# Altium footprint library Microchip Linear.PcbLib: 90 footprints (part 4 of 6)
Each footprint in its own frame and in the unit in brackets; x right, y up, seen from the top. Pads: shape width x height; smd on the part's side, far side on the other; paste and mask are expansions set on the pad; w line width, h text height; cw(c..) or ccw(c..) is an arc to the next point about the centre after c.
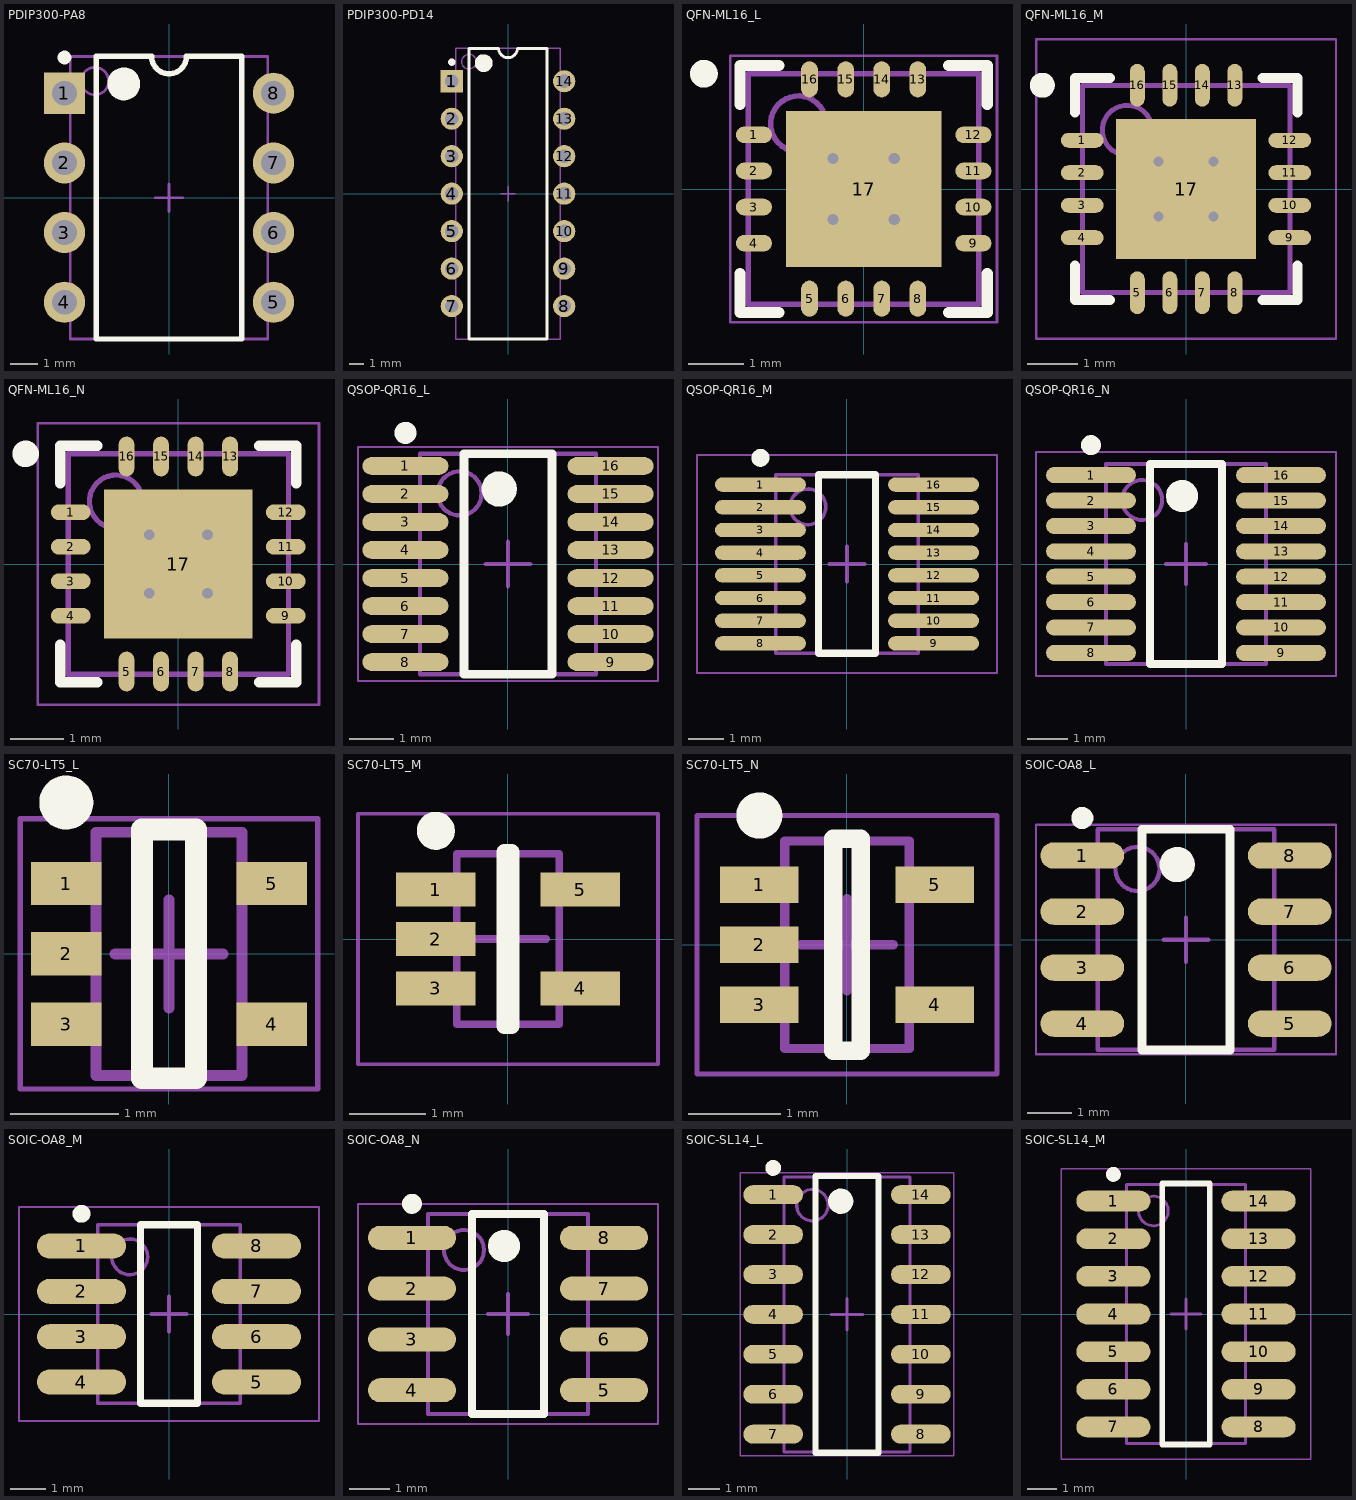
[diagram p3: the footprints below, top view; thin cyan lines are the x and y axes]

## PDIP300-PA8 [mm] "DIP, 8-Leads, Row Spacing 7.62mm, Pitch 2.54mm, Body 9.5x6.6mm"
height 5.33
pads (8):
  rect 1.5x1.5 hole 0.9: 1(-3.81,3.81)
  round 1.5 hole 0.9: 2(-3.81,1.27) 3(-3.81,-1.27) 4(-3.81,-3.81) 5(3.81,-3.81) 6(3.81,-1.27) 7(3.81,1.27) 8(3.81,3.81)
Top Overlay:
  circle w0.6: c-1.65,4.15 r0.3
  circle w0.25: c-3.81,5.11 r0.125
  lines w0.2: -2.65,-5.15 2.65,-5.15 2.65,5.15 0.635,5.15 cw(c0,5.15) -0.635,5.15 -2.65,5.15 -2.65,-5.15
Mechanical 13:
  circle w0.1: c-2.7,4.25 r0.5
  lines w0.1: -3.6,-5.15 3.6,-5.15 3.6,5.15 -3.6,5.15 -3.6,-5.15
Mechanical 15:
  lines w0.1: -0.5,0 0.5,0 ; 0,-0.5 0,0.5
3D body "DIP8.step": height 4.8, standoff -3.3, extent -3.935,-4.9 3.935,4.9

## PDIP300-PD14 [mm] "DIP, 14-Leads, Row Spacing 7.62mm, Pitch 2.54mm, Body 19.2x6.6mm"
height 5.33
pads (14):
  rect 1.5x1.5 hole 0.9: 1(-3.81,7.62)
  round 1.5 hole 0.9: 2(-3.81,5.08) 3(-3.81,2.54) 4(-3.81,0) 5(-3.81,-2.54) 6(-3.81,-5.08) 7(-3.81,-7.62) 8(3.81,-7.62) 9(3.81,-5.08) 10(3.81,-2.54) 11(3.81,0) 12(3.81,2.54) 13(3.81,5.08) 14(3.81,7.62)
Top Overlay:
  circle w0.6: c-1.65,8.85 r0.3
  circle w0.25: c-3.81,8.92 r0.125
  lines w0.2: -2.65,-9.85 2.65,-9.85 2.65,9.85 0.635,9.85 cw(c0,9.85) -0.635,9.85 -2.65,9.85 -2.65,-9.85
Mechanical 13:
  circle w0.1: c-2.65,8.95 r0.5
  lines w0.1: -3.55,-9.85 3.55,-9.85 3.55,9.85 -3.55,9.85 -3.55,-9.85
Mechanical 15:
  lines w0.1: -0.5,0 0.5,0 ; 0,-0.5 0,0.5
3D body "DIP14.step": height 4.01, standoff -2.97, extent -4,-9.525 4,9.525

## QFN-ML16_L [mm] "QFN, 16-Leads, Body 4x4mm, Pitch 0.65mm, Thermal Pad 2.8x2.8mm, IPC High Density"
height 1
pads (17):
  oval 0.65x0.3 smd: 1(-1.975,0.975) 2(-1.975,0.325) 3(-1.975,-0.325) 4(-1.975,-0.975) 9(1.975,-0.975) 10(1.975,-0.325) 11(1.975,0.325) 12(1.975,0.975)
  oval 0.3x0.65 smd: 5(-0.975,-1.975) 6(-0.325,-1.975) 7(0.325,-1.975) 8(0.975,-1.975) 13(0.975,1.975) 14(0.325,1.975) 15(-0.325,1.975) 16(-0.975,1.975)
  rect 2.8x2.8 smd: 17(0,0)
via -0.55,0.55 diameter 0.5 hole 0.2
via 0.55,0.55 diameter 0.5 hole 0.2
via -0.55,-0.55 diameter 0.5 hole 0.2
via 0.55,-0.55 diameter 0.5 hole 0.2
Top Overlay:
  circle w0.25: c-2.875,2.075 r0.125
  lines w0.2: -2.225,-1.525 -2.225,-2.225 -1.525,-2.225 ; -2.225,1.525 -2.225,2.225 -1.525,2.225 ; 1.525,-2.225 2.225,-2.225 2.225,-1.525 ; 1.525,2.225 2.225,2.225 2.225,1.525
Mechanical 13:
  circle w0.1: c-1.175,1.175 r0.5
  lines w0.1: -2.075,-2.075 -2.075,2.075 2.075,2.075 2.075,-2.075 -2.075,-2.075
Mechanical 15:
  lines w0.05: -2.4,-2.4 -2.4,2.4 2.4,2.4 2.4,-2.4 -2.4,-2.4
  lines w0.1: -0.5,0 0.5,0 ; 0,-0.5 0,0.5
3D body "QFN16-4x4.step": height 0.92, standoff 0, extent -2,-2 2,2

## QFN-ML16_M [mm] "QFN, 16-Leads, Body 4x4mm, Pitch 0.65mm, Thermal Pad 2.8x2.8mm, IPC Low Density"
height 1
pads (17):
  oval 0.85x0.3 smd: 1(-2.075,0.975) 2(-2.075,0.325) 3(-2.075,-0.325) 4(-2.075,-0.975) 9(2.075,-0.975) 10(2.075,-0.325) 11(2.075,0.325) 12(2.075,0.975)
  oval 0.3x0.85 smd: 5(-0.975,-2.075) 6(-0.325,-2.075) 7(0.325,-2.075) 8(0.975,-2.075) 13(0.975,2.075) 14(0.325,2.075) 15(-0.325,2.075) 16(-0.975,2.075)
  rect 2.8x2.8 smd: 17(0,0)
via -0.55,0.55 diameter 0.5 hole 0.2
via 0.55,0.55 diameter 0.5 hole 0.2
via -0.55,-0.55 diameter 0.5 hole 0.2
via 0.55,-0.55 diameter 0.5 hole 0.2
Top Overlay:
  circle w0.25: c-2.875,2.075 r0.125
  lines w0.2: -2.225,-1.525 -2.225,-2.225 -1.525,-2.225 ; -2.225,1.525 -2.225,2.225 -1.525,2.225 ; 1.525,-2.225 2.225,-2.225 2.225,-1.525 ; 1.525,2.225 2.225,2.225 2.225,1.525
Mechanical 13:
  circle w0.1: c-1.175,1.175 r0.5
  lines w0.1: -2.075,-2.075 -2.075,2.075 2.075,2.075 2.075,-2.075 -2.075,-2.075
Mechanical 15:
  lines w0.05: -3,-3 -3,3 3,3 3,-3 -3,-3
  lines w0.1: -0.5,0 0.5,0 ; 0,-0.5 0,0.5
3D body "QFN16-4x4.step": height 0.92, standoff 0, extent -2,-2 2,2

## QFN-ML16_N [mm] "QFN, 16-Leads, Body 4x4mm, Pitch 0.65mm, Thermal Pad 2.8x2.8mm, IPC Medium Density"
height 1
pads (17):
  oval 0.75x0.3 smd: 1(-2.025,0.975) 2(-2.025,0.325) 3(-2.025,-0.325) 4(-2.025,-0.975) 9(2.025,-0.975) 10(2.025,-0.325) 11(2.025,0.325) 12(2.025,0.975)
  oval 0.3x0.75 smd: 5(-0.975,-2.025) 6(-0.325,-2.025) 7(0.325,-2.025) 8(0.975,-2.025) 13(0.975,2.025) 14(0.325,2.025) 15(-0.325,2.025) 16(-0.975,2.025)
  rect 2.8x2.8 smd: 17(0,0)
via -0.55,0.55 diameter 0.5 hole 0.2
via 0.55,0.55 diameter 0.5 hole 0.2
via -0.55,-0.55 diameter 0.5 hole 0.2
via 0.55,-0.55 diameter 0.5 hole 0.2
Top Overlay:
  circle w0.25: c-2.875,2.075 r0.125
  lines w0.2: -2.225,-1.525 -2.225,-2.225 -1.525,-2.225 ; -2.225,1.525 -2.225,2.225 -1.525,2.225 ; 1.525,-2.225 2.225,-2.225 2.225,-1.525 ; 1.525,2.225 2.225,2.225 2.225,1.525
Mechanical 13:
  circle w0.1: c-1.175,1.175 r0.5
  lines w0.1: -2.075,-2.075 -2.075,2.075 2.075,2.075 2.075,-2.075 -2.075,-2.075
Mechanical 15:
  lines w0.05: -2.65,-2.65 -2.65,2.65 2.65,2.65 2.65,-2.65 -2.65,-2.65
  lines w0.1: -0.5,0 0.5,0 ; 0,-0.5 0,0.5
3D body "QFN16-4x4.step": height 0.92, standoff 0, extent -2,-2 2,2

## QSOP-QR16_L [mm] "SOP, 16-Leads, Body 4.9x3.9mm, Pitch 0.635mm, IPC High Density"
height 1.76
pads (16):
  oval 1.95x0.4 smd: 1(-2.325,2.222) 2(-2.325,1.587) 3(-2.325,0.953) 4(-2.325,0.318) 5(-2.325,-0.318) 6(-2.325,-0.953) 7(-2.325,-1.587) 8(-2.325,-2.222) 9(2.325,-2.222) 10(2.325,-1.587) 11(2.325,-0.953) 12(2.325,-0.318) 13(2.325,0.318) 14(2.325,0.953) 15(2.325,1.587) 16(2.325,2.222)
Top Overlay:
  circle w0.4: c-0.2,1.7 r0.2
  circle w0.25: c-2.325,2.973 r0.125
  lines w0.2: -1,-2.5 1,-2.5 1,2.5 -1,2.5 -1,-2.5
Mechanical 13:
  circle w0.1: c-1.095,1.6 r0.5
  lines w0.1: -1.995,-2.5 1.995,-2.5 1.995,2.5 -1.995,2.5 -1.995,-2.5
Mechanical 15:
  lines w0.05: -3.4,-2.65 3.4,-2.65 3.4,2.65 -3.4,2.65 -3.4,-2.65
  lines w0.1: -0.5,0 0.5,0 ; 0,-0.5 0,0.5
3D body "TSSOP16-1.step": height 1.1, standoff 0, extent -3.2,-2.5 3.2,2.5

## QSOP-QR16_M [mm] "SOP, 16-Leads, Body 4.9x3.9mm, Pitch 0.635mm, IPC Low Density"
height 1.76
pads (16):
  oval 2.55x0.4 smd: 1(-2.425,2.222) 2(-2.425,1.587) 3(-2.425,0.953) 4(-2.425,0.318) 5(-2.425,-0.318) 6(-2.425,-0.953) 7(-2.425,-1.587) 8(-2.425,-2.222) 9(2.425,-2.222) 10(2.425,-1.587) 11(2.425,-0.953) 12(2.425,-0.318) 13(2.425,0.318) 14(2.425,0.953) 15(2.425,1.587) 16(2.425,2.222)
Top Overlay:
  circle w0.25: c-2.425,2.973 r0.125
  lines w0.2: -0.8,-2.5 -0.8,2.5 0.8,2.5 0.8,-2.5 -0.8,-2.5
Mechanical 13:
  circle w0.1: c-1.095,1.6 r0.5
  lines w0.1: -1.995,-2.5 -1.995,2.5 1.995,2.5 1.995,-2.5 -1.995,-2.5
Mechanical 15:
  lines w0.05: -4.2,-3.05 -4.2,3.05 4.2,3.05 4.2,-3.05 -4.2,-3.05
  lines w0.1: -0.5,0 0.5,0 ; 0,-0.5 0,0.5
3D body "TSSOP16-1.step": height 1.1, standoff 0, extent -3.2,-2.5 3.2,2.5

## QSOP-QR16_N [mm] "SOP, 16-Leads, Body 4.9x3.9mm, Pitch 0.635mm, IPC Medium Density"
height 1.76
pads (16):
  oval 2.25x0.4 smd: 1(-2.375,2.222) 2(-2.375,1.587) 3(-2.375,0.953) 4(-2.375,0.318) 5(-2.375,-0.318) 6(-2.375,-0.953) 7(-2.375,-1.587) 8(-2.375,-2.222) 9(2.375,-2.222) 10(2.375,-1.587) 11(2.375,-0.953) 12(2.375,-0.318) 13(2.375,0.318) 14(2.375,0.953) 15(2.375,1.587) 16(2.375,2.222)
Top Overlay:
  circle w0.4: c-0.1,1.7 r0.2
  circle w0.25: c-2.375,2.973 r0.125
  lines w0.2: -0.9,-2.5 0.9,-2.5 0.9,2.5 -0.9,2.5 -0.9,-2.5
Mechanical 13:
  circle w0.1: c-1.095,1.6 r0.5
  lines w0.1: -1.995,-2.5 1.995,-2.5 1.995,2.5 -1.995,2.5 -1.995,-2.5
Mechanical 15:
  lines w0.05: -3.75,-2.8 3.75,-2.8 3.75,2.8 -3.75,2.8 -3.75,-2.8
  lines w0.1: -0.5,0 0.5,0 ; 0,-0.5 0,0.5
3D body "TSSOP16-1.step": height 1.1, standoff 0, extent -3.2,-2.5 3.2,2.5

## SC70-LT5_L [mm] "SOT353, 5-Leads, Body 2x1.3mm, Pitch 0.65mm, Lead Span 2.1mm, IPC High Density"
height 1.1
pads (5):
  rect 0.65x0.4 smd: 1(-0.95,0.65) 2(-0.95,0) 3(-0.95,-0.65) 4(0.95,-0.65) 5(0.95,0.65)
Top Overlay:
  circle w0.25: c-0.95,1.4 r0.125
  lines w0.2: -0.25,-1.15 0.25,-1.15 0.25,1.15 -0.25,1.15 -0.25,-1.15
Mechanical 13:
  lines w0.1: -0.675,-1.125 -0.675,1.125 0.675,1.125 0.675,-1.125 -0.675,-1.125
Mechanical 15:
  lines w0.05: -1.375,-1.25 -1.375,1.25 1.375,1.25 1.375,-1.25 -1.375,-1.25
  lines w0.1: -0.5,0 0.5,0 ; 0,-0.5 0,0.5
3D body "SC70-5-1.step": height 0.95, standoff 0, extent -1.05,-1 1.05,1

## SC70-LT5_M [mm] "SOT353, 5-Leads, Body 2x1.3mm, Pitch 0.65mm, Lead Span 2.1mm, IPC Low Density"
height 1.1
pads (5):
  rect 1.05x0.45 smd: 1(-0.95,0.65) 2(-0.95,0) 3(-0.95,-0.65) 4(0.95,-0.65) 5(0.95,0.65)
Top Overlay:
  circle w0.25: c-0.95,1.425 r0.125
  lines w0.2: -0.05,-1.15 -0.05,1.15 0.05,1.15 0.05,-1.15 -0.05,-1.15
Mechanical 13:
  lines w0.1: -0.675,-1.125 0.675,-1.125 0.675,1.125 -0.675,1.125 -0.675,-1.125
Mechanical 15:
  lines w0.05: -1.975,-1.65 1.975,-1.65 1.975,1.65 -1.975,1.65 -1.975,-1.65
  lines w0.1: -0.5,0 0.5,0 ; 0,-0.5 0,0.5
3D body "SC70-5-1.step": height 0.95, standoff 0, extent -1.05,-1 1.05,1

## SC70-LT5_N [mm] "SOT353, 5-Leads, Body 2x1.3mm, Pitch 0.65mm, Lead Span 2.1mm, IPC Medium Density"
height 1.1
pads (5):
  rect 0.85x0.4 smd: 1(-0.95,0.65) 2(-0.95,0) 3(-0.95,-0.65) 4(0.95,-0.65) 5(0.95,0.65)
Top Overlay:
  circle w0.25: c-0.95,1.4 r0.125
  lines w0.2: -0.15,-1.15 -0.15,1.15 0.15,1.15 0.15,-1.15 -0.15,-1.15
Mechanical 13:
  lines w0.1: -0.675,-1.125 0.675,-1.125 0.675,1.125 -0.675,1.125 -0.675,-1.125
Mechanical 15:
  lines w0.05: -1.625,-1.4 1.625,-1.4 1.625,1.4 -1.625,1.4 -1.625,-1.4
  lines w0.1: -0.5,0 0.5,0 ; 0,-0.5 0,0.5
3D body "SC70-5-1.step": height 0.95, standoff 0, extent -1.05,-1 1.05,1

## SOIC-OA8_L [mm] "SOIC, 8-Leads, Body 4.9x3.9mm, Pitch 1.27mm, IPC High Density"
height 1.75
pads (8):
  oval 1.9x0.6 smd: 1(-2.35,1.905) 2(-2.35,0.635) 3(-2.35,-0.635) 4(-2.35,-1.905) 5(2.35,-1.905) 6(2.35,-0.635) 7(2.35,0.635) 8(2.35,1.905)
Top Overlay:
  circle w0.4: c-0.2,1.7 r0.2
  circle w0.25: c-2.35,2.755 r0.125
  lines w0.2: -1,-2.5 1,-2.5 1,2.5 -1,2.5 -1,-2.5
Mechanical 13:
  circle w0.1: c-1.1,1.6 r0.5
  lines w0.1: -2,-2.5 2,-2.5 2,2.5 -2,2.5 -2,-2.5
Mechanical 15:
  lines w0.05: -3.4,-2.6 3.4,-2.6 3.4,2.6 -3.4,2.6 -3.4,-2.6
  lines w0.1: -0.5,0 0.5,0 ; 0,-0.5 0,0.5
3D body "SOIC8-1.step": height 1.75, standoff 0, extent -3,-2.45 3,2.45

## SOIC-OA8_M [mm] "SOIC, 8-Leads, Body 4.9x3.9mm, Pitch 1.27mm, IPC Low Density"
height 1.75
pads (8):
  oval 2.5x0.7 smd: 1(-2.45,1.905) 2(-2.45,0.635) 3(-2.45,-0.635) 4(-2.45,-1.905) 5(2.45,-1.905) 6(2.45,-0.635) 7(2.45,0.635) 8(2.45,1.905)
Top Overlay:
  circle w0.25: c-2.45,2.805 r0.125
  lines w0.2: -0.8,-2.5 0.8,-2.5 0.8,2.5 -0.8,2.5 -0.8,-2.5
Mechanical 13:
  circle w0.1: c-1.1,1.6 r0.5
  lines w0.1: -2,-2.5 2,-2.5 2,2.5 -2,2.5 -2,-2.5
Mechanical 15:
  lines w0.05: -4.2,-3 4.2,-3 4.2,3 -4.2,3 -4.2,-3
  lines w0.1: -0.5,0 0.5,0 ; 0,-0.5 0,0.5
3D body "SOIC8-1.step": height 1.75, standoff 0, extent -3,-2.45 3,2.45

## SOIC-OA8_N [mm] "SOIC, 8-Leads, Body 4.9x3.9mm, Pitch 1.27mm, IPC Medium Density"
height 1.75
pads (8):
  oval 2.2x0.6 smd: 1(-2.4,1.905) 2(-2.4,0.635) 3(-2.4,-0.635) 4(-2.4,-1.905) 5(2.4,-1.905) 6(2.4,-0.635) 7(2.4,0.635) 8(2.4,1.905)
Top Overlay:
  circle w0.25: c-2.4,2.755 r0.125
  circle w0.4: c-0.1,1.7 r0.2
  lines w0.2: -0.9,-2.5 -0.9,2.5 0.9,2.5 0.9,-2.5 -0.9,-2.5
Mechanical 13:
  circle w0.1: c-1.1,1.6 r0.5
  lines w0.1: -2,-2.5 -2,2.5 2,2.5 2,-2.5 -2,-2.5
Mechanical 15:
  lines w0.05: -3.75,-2.75 -3.75,2.75 3.75,2.75 3.75,-2.75 -3.75,-2.75
  lines w0.1: -0.5,0 0.5,0 ; 0,-0.5 0,0.5
3D body "SOIC8-1.step": height 1.75, standoff 0, extent -3,-2.45 3,2.45

## SOIC-SL14_L [mm] "SOIC, 14-Leads, Body 8.7x3.9mm, Pitch 1.27mm, IPC High Density"
height 1.75
pads (14):
  oval 1.9x0.6 smd: 1(-2.35,3.81) 2(-2.35,2.54) 3(-2.35,1.27) 4(-2.35,0) 5(-2.35,-1.27) 6(-2.35,-2.54) 7(-2.35,-3.81) 8(2.35,-3.81) 9(2.35,-2.54) 10(2.35,-1.27) 11(2.35,0) 12(2.35,1.27) 13(2.35,2.54) 14(2.35,3.81)
Top Overlay:
  circle w0.25: c-2.35,4.66 r0.125
  circle w0.4: c-0.2,3.6 r0.2
  lines w0.2: -1,-4.4 -1,4.4 1,4.4 1,-4.4 -1,-4.4
Mechanical 13:
  circle w0.1: c-1.1,3.475 r0.5
  lines w0.1: -2,-4.375 -2,4.375 2,4.375 2,-4.375 -2,-4.375
Mechanical 15:
  lines w0.05: -3.4,-4.5 -3.4,4.5 3.4,4.5 3.4,-4.5 -3.4,-4.5
  lines w0.1: -0.5,0 0.5,0 ; 0,-0.5 0,0.5
3D body "SOIC14-150.step": height 1.75, standoff 0, extent -2.9,-4.275 2.9,4.275

## SOIC-SL14_M [mm] "SOIC, 14-Leads, Body 8.7x3.9mm, Pitch 1.27mm, IPC Low Density"
height 1.75
pads (14):
  oval 2.5x0.7 smd: 1(-2.45,3.81) 2(-2.45,2.54) 3(-2.45,1.27) 4(-2.45,0) 5(-2.45,-1.27) 6(-2.45,-2.54) 7(-2.45,-3.81) 8(2.45,-3.81) 9(2.45,-2.54) 10(2.45,-1.27) 11(2.45,0) 12(2.45,1.27) 13(2.45,2.54) 14(2.45,3.81)
Top Overlay:
  circle w0.25: c-2.45,4.71 r0.125
  lines w0.2: -0.8,-4.4 -0.8,4.4 0.8,4.4 0.8,-4.4 -0.8,-4.4
Mechanical 13:
  circle w0.1: c-1.1,3.475 r0.5
  lines w0.1: -2,-4.375 -2,4.375 2,4.375 2,-4.375 -2,-4.375
Mechanical 15:
  lines w0.05: -4.2,-4.9 -4.2,4.9 4.2,4.9 4.2,-4.9 -4.2,-4.9
  lines w0.1: -0.5,0 0.5,0 ; 0,-0.5 0,0.5
3D body "SOIC14-150.step": height 1.75, standoff 0, extent -2.9,-4.275 2.9,4.275